# Altium schematic symbol library ISO154x.Schlib: 1 symbol
Pins are listed as number, name and electrical type; pins without a type are passive.

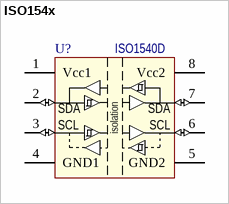
[diagram p0: symbol ISO154x]

## ISO154x
designator U?, comment Наименование: ISO1540D  (hidden comment: ISO1540)
Low-Power Bidirectional I2C Isolators; Потребление, Вт: 0,001; Назначение: Low-Power Bidirectional I2C Isolators
footprint SOIC-8
pins: 1 Vcc1 (power), 2 SDA (io), 3 SCL (io), 4 GND1 (power), 5 GND2 (power), 6 SCL (io) "CAN LOW", 7 SDA (io) "CAN HIGHT", 8 Vcc2 (power)
text: isolation